# EAGLE library part BJT-PNP-DUAL (library bt_transistor)
Dual PNP
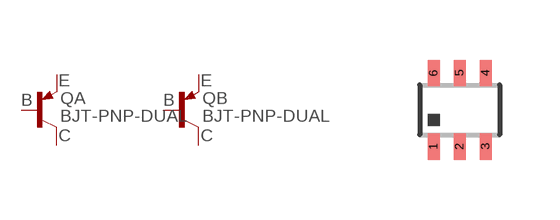
[diagram p0: symbol with the pads of SC70-6/SC-88/SOT-363; footprint SC70-6/SC-88/SOT-363]

Designator prefix Q; gates A=PNP B=PNP

## BJT-PNP-DUAL  [SC70-6/SC-88/SOT-363]
1  A:E  pas
2  A:B  pas
3  B:C  pas
4  B:E  pas
5  B:B  pas
6  A:C  pas

## Footprint SC70-6/SC-88/SOT-363 (pad centres in mm)
SC70-6 / SC88 / SOT-363
smd 0.3 x 0.66: 1 -0.65,-0.92; 2 0,-0.92; 3 0.65,-0.92; 4 0.65,0.92; 5 0,0.92; 6 -0.65,0.92